# Altium schematic symbol library Sensors.SchLib: 1 symbol
Pins are listed as number, name and electrical type; pins without a type are passive.

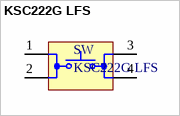
[diagram p0: symbol KSC222G LFS]

## KSC222G LFS
designator SW
Button SMD
footprint KSC222G LFS
pins: 1, 2, 3, 4